# Altium schematic symbol library Ag96XX2BR.SchLib: 1 symbol
Pins are listed as number, name and electrical type; pins without a type are passive.

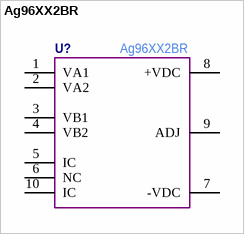
[diagram p0: symbol Ag96XX2BR]

## Ag96XX2BR
designator U?  Manufacturer Part Number: Ag96XX2BR  (hidden comment: *)
pins: 1 VA1, 2 VA2, 3 VB1, 4 VB2, 5 IC, 6 NC, 7 -VDC, 8 +VDC, 9 ADJ, 10 IC